# EAGLE library part ARDUINO_MICRO_REV03J_USB (library Motor controller v8)
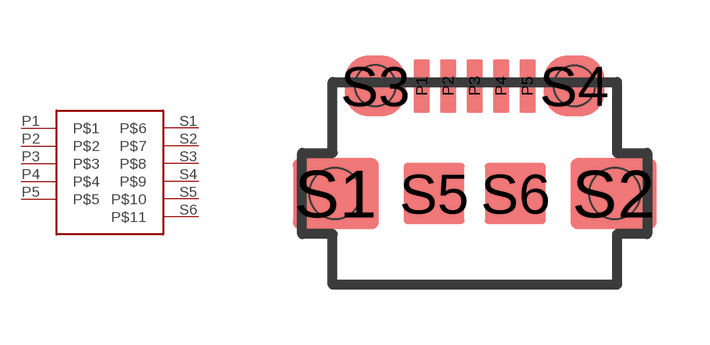
[diagram p0: symbol with the pads of ARDUINO_MICRO_REV03J_CON2_USB_MICRO_B_AT; footprint ARDUINO_MICRO_REV03J_CON2_USB_MICRO_B_AT]

Designator prefix -

## ARDUINO_MICRO_REV03J_USB  [ARDUINO_MICRO_REV03J_CON2_USB_MICRO_B_AT]
P1  P$1
P2  P$2
P3  P$3
P4  P$4
P5  P$5
S1  P$6
S2  P$7
S3  P$8
S4  P$9
S5  P$10
S6  P$11

## Footprint ARDUINO_MICRO_REV03J_CON2_USB_MICRO_B_AT (pad centres in mm)
smd 0.406 x 1.346: P1 -1.321,2.692; P2 -0.66,2.692; P3 0,2.692; P4 0.66,2.692; P5 1.321,2.692
smd 2.159 x 1.778: S1 -3.473,0; S2 3.473,0
smd 1.524 x 1.524: S3 -2.489,2.692; S4 2.489,2.692; S5 -1.016,0; S6 1.016,0
hole 1.016 at -2.484,2.701
hole 1.016 at 2.492,2.692
hole 1.27 at -3.492,0
hole 1.27 at 3.508,0.003